# Altium footprint library TPS799_SOT5.PcbLib: 1 footprints
Each footprint in its own frame and in the unit in brackets; x right, y up, seen from the top. Pads: shape width x height; smd on the part's side, far side on the other; paste and mask are expansions set on the pad; w line width, h text height; cw(c..) or ccw(c..) is an arc to the next point about the centre after c.
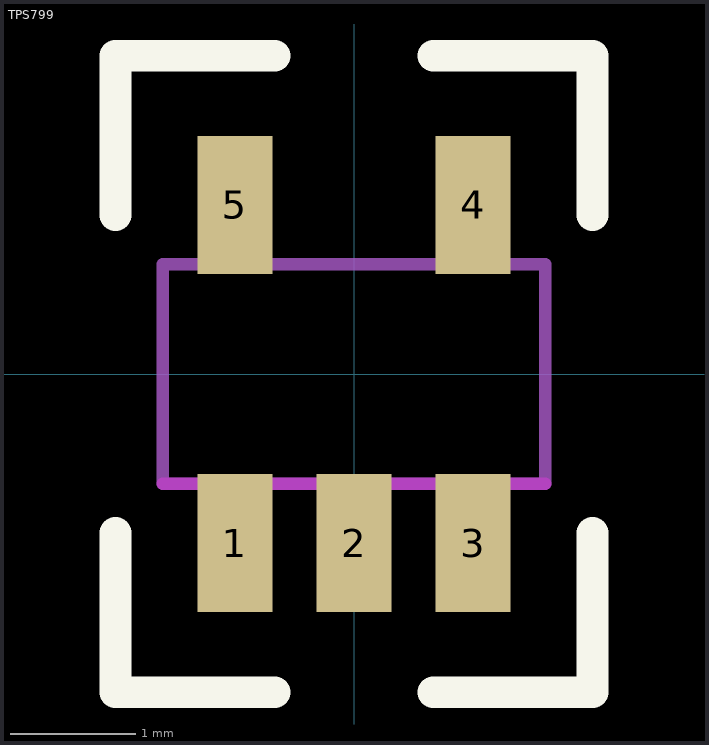
[diagram p0: the footprint, top view; thin cyan lines are the x and y axes]

## TPS799 [mm]
pads (5):
  rect 0.6x1.1 smd mask+0.07: 1(-0.95,-1.35) 2(0,-1.35) 3(0.95,-1.35) 4(0.95,1.35) 5(-0.95,1.35)
Top Overlay:
  lines w0.254: -1.905,-1.27 -1.905,-2.54 -0.635,-2.54 ; -1.905,1.27 -1.905,2.54 -0.635,2.54 ; 0.635,-2.54 1.905,-2.54 1.905,-1.27 ; 0.635,2.54 1.905,2.54 1.905,1.27
Mechanical 1:
  lines w0.1: -1.525,-0.875 -1.525,0.875 1.525,0.875 1.525,-0.875
Mechanical 1 keep-out:
  lines w0.1: -1.525,-0.875 1.525,-0.875
3D body: height 1, standoff 0.1, extent -1.525,-0.875 1.525,0.875